# Altium integrated library NSC Amplifier.IntLib: 719 symbols (part 16 of 19)
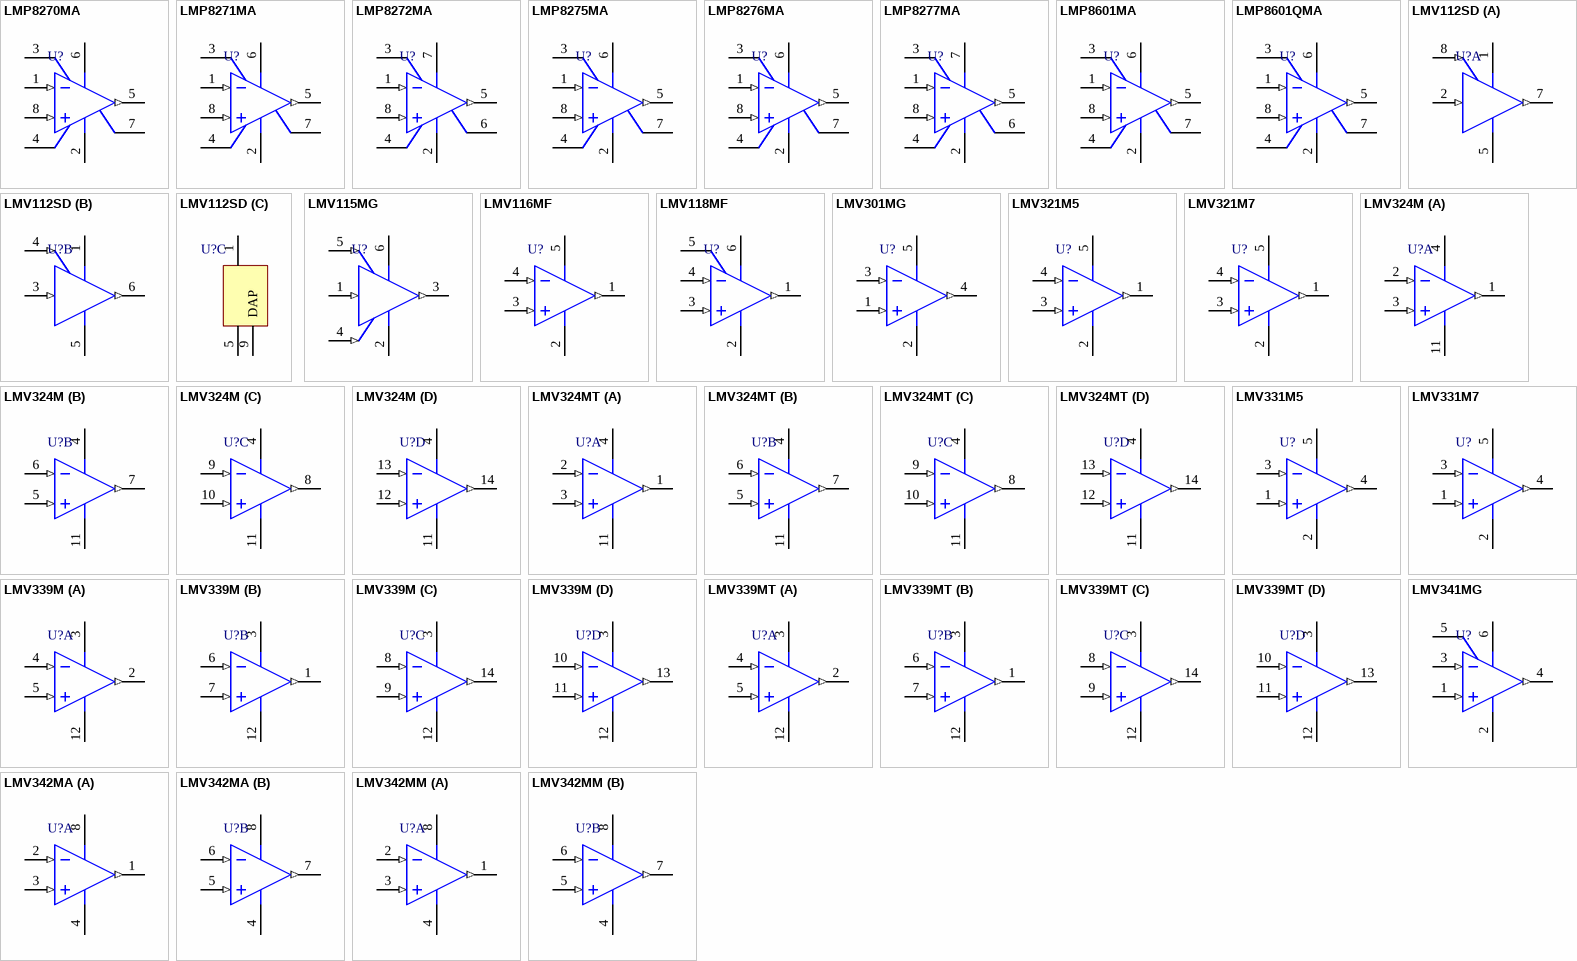
[diagram p53: symbols LMP8270MA to LMV342MM]

## LMV331M5
designator U?
Single General Purpose, Low Voltage, Tiny Pack Comparator; PartNumber: LMV331M5; Manufacturer: National Semiconductor; CompType: Amplifiers; PackageTopMarking: C12*XTT; Published: 4-Dec-2008; LatestRevisionDate: 13-Jan-2009; LatestRevisionNote: Sim Model Added.; DatasheetVersion: May-2007; PackageVersion: revD, Aug-2008; PackageReference: MF05A; Publisher: Altium Limited; PackageDescription: Molded SOT-23, .115 x .063 x .040 in Body, 5 Lead, .0375 in Pitch; RoHS: O; PinCount: 5; DigiKeyPartNumber: LMV331M5XCT-ND; Code_IPC: SOT23-5; ComponentLink1Description: LMV331 Datasheet; ComponentLink1URL: http://www.national.com/ds/LM/LMV331.pdf; ComponentLink2Description: LMV331 Web Page; ComponentLink2URL: http://www.national.com/pf/LM/LMV331.html; ComponentLink3Description: MF05A Package Page; ComponentLink3URL: http://www.national.com/packaging/folders/mf05a.html
footprint MF05A_N (SOT23, 5-Leads, Body 2.9x1.6mm, Pitch 0.95mm, Lead Span 2.8mm, IPC Medium Density)
footprint MF05A_L (SOT23, 5-Leads, Body 2.9x1.6mm, Pitch 0.95mm, Lead Span 2.8mm, IPC High Density)
footprint MF05A_M (SOT23, 5-Leads, Body 2.9x1.6mm, Pitch 0.95mm, Lead Span 2.8mm, IPC Low Density)
simulation model LMV331 (SUBCKT)
pins: 1 IN+ (in), 2 V- (power), 3 IN- (in), 4 OUT (out), 5 V+ (power)

## LMV331M7
designator U?
Single General Purpose, Low Voltage, Tiny Pack Comparator; PartNumber: LMV331M7; Manufacturer: National Semiconductor; CompType: Amplifiers; PackageTopMarking: C13*XTT; Published: 4-Dec-2008; LatestRevisionDate: 13-Jan-2009; LatestRevisionNote: Sim Model Added.; DatasheetVersion: May-2007; PackageVersion: revD, Jun-2007; PackageReference: MAA05A; Publisher: Altium Limited; PackageDescription: Molded SC-70, 2 x 1.25 x .9mm, 5 Lead, 0.65mm Pitch; RoHS: O; PinCount: 5; DigiKeyPartNumber: LMV331M7CT-ND; Code_JEITA: SC-88A; Code_JEDEC: MO-203-AA; Code_IPC: SOT353-5; ComponentLink1Description: LMV331 Datasheet; ComponentLink1URL: http://www.national.com/ds/LM/LMV331.pdf; ComponentLink2Description: LMV331 Web Page; ComponentLink2URL: http://www.national.com/pf/LM/LMV331.html; ComponentLink3Description: MAA05A Package Page; ComponentLink3URL: http://www.national.com/packaging/folders/maa05a.html
footprint MAA05A_N (SOT353, 5-Leads, Body 2x1.3mm, Pitch 0.65mm, Lead Span 2.1mm, IPC Medium Density)
footprint MAA05A_L (SOT353, 5-Leads, Body 2x1.3mm, Pitch 0.65mm, Lead Span 2.1mm, IPC High Density)
footprint MAA05A_M (SOT353, 5-Leads, Body 2x1.3mm, Pitch 0.65mm, Lead Span 2.1mm, IPC Low Density)
simulation model LMV331 (SUBCKT)
pins: 1 IN+ (in), 2 V- (power), 3 IN- (in), 4 OUT (out), 5 V+ (power)

## LMV339M
designator U?
Quad General Purpose, Low Voltage, Tiny Pack Comparator; PartNumber: LMV339M; Manufacturer: National Semiconductor; CompType: Amplifiers; PackageTopMarking: NSUZXYTT*LMV339M; Published: 4-Dec-2008; LatestRevisionDate: 13-Jan-2009; LatestRevisionNote: Sim Model Added.; DatasheetVersion: May-2007; PackageVersion: revJ, Jan-1996; PackageReference: M14A; Publisher: Altium Limited; PackageDescription: Molded Package S.O., .150in Wide, 14 Lead; RoHS: O; PinCount: 14; DigiKeyPartNumber: LMV339M-ND; Code_JEDEC: MS-012AB; Code_IPC: SOIC127P600-14; ComponentLink1Description: LMV339 Datasheet; ComponentLink1URL: http://www.national.com/ds/LM/LMV339.pdf; ComponentLink2Description: LMV339 Web Page; ComponentLink2URL: http://www.national.com/pf/LM/LMV339.html; ComponentLink3Description: M14A Package Page; ComponentLink3URL: http://www.national.com/packaging/folders/m14a.html
footprint M14A_N (SOIC, 14-Leads, Body 8.6x3.9mm, Pitch 1.27mm, IPC Medium Density)
footprint M14A_L (SOIC, 14-Leads, Body 8.6x3.9mm, Pitch 1.27mm, IPC High Density)
footprint M14A_M (SOIC, 14-Leads, Body 8.6x3.9mm, Pitch 1.27mm, IPC Low Density)
simulation model LMV339 (SUBCKT)
pins on every part: 3 V+ (power), 12 V- (power)
part A pins: 2 OUTA (out), 4 INA- (in), 5 INA+ (in)
part B pins: 1 OUTB (out), 6 INB- (in), 7 INB+ (in)
part C pins: 8 INC- (in), 9 INC+ (in), 14 OUTC (out)
part D pins: 10 IND- (in), 11 IND+ (in), 13 OUTD (out)

## LMV339MT
designator U?
Quad General Purpose, Low Voltage, Tiny Pack Comparator; PartNumber: LMV339MT; Manufacturer: National Semiconductor; CompType: Amplifiers; PackageTopMarking: NSUZXYTT*LMV339*MT; Published: 4-Dec-2008; LatestRevisionDate: 13-Jan-2009; LatestRevisionNote: Sim Model Added.; DatasheetVersion: May-2007; PackageVersion: revD, Jun-2003; PackageReference: MTC14; Publisher: Altium Limited; PackageDescription: Molded TSSOP, JEDEC, 5 x 4.4 x 0.9mm Body, 14 Lead, 0.65mm Pitch; RoHS: O; PinCount: 14; DigiKeyPartNumber: LMV339MT-ND; Code_JEDEC: MO-153-AB-1; ComponentLink1Description: LMV339 Datasheet; ComponentLink1URL: http://www.national.com/ds/LM/LMV339.pdf; ComponentLink2Description: LMV339 Web Page; ComponentLink2URL: http://www.national.com/pf/LM/LMV339.html; ComponentLink3Description: MTC14 Package Page; ComponentLink3URL: http://www.national.com/packaging/folders/mtc14.html
footprint MTC14_N (TSOP, 14-Leads, Body 5x4.4mm, Pitch 0.65mm, IPC Medium Density)
footprint MTC14_L (TSOP, 14-Leads, Body 5x4.4mm, Pitch 0.65mm, IPC High Density)
footprint MTC14_M (TSOP, 14-Leads, Body 5x4.4mm, Pitch 0.65mm, IPC Low Density)
simulation model LMV339 (SUBCKT)
pins on every part: 3 V+ (power), 12 V- (power)
part A pins: 2 OUTA (out), 4 INA- (in), 5 INA+ (in)
part B pins: 1 OUTB (out), 6 INB- (in), 7 INB+ (in)
part C pins: 8 INC- (in), 9 INC+ (in), 14 OUTC (out)
part D pins: 10 IND- (in), 11 IND+ (in), 13 OUTD (out)

## LMV341MG
designator U?
Single with Shutdown/Dual/Quad General Purpose, 2.7V, Rail-to-Rail Output, 125°C, Operational Amplifiers; PartNumber: LMV341MG; Manufacturer: National Semiconductor; PackageTopMarking: A78*XTT; Published: 4-Dec-2008; LatestRevisionDate: 13-Jan-2009; LatestRevisionNote: Sim Model Added.; DatasheetVersion: Jan-2008; PackageVersion: revB, Jun-2007; PackageReference: MAA06A; Publisher: Altium Limited; PackageDescription: Molded SC-70, 2 x 1.25 x .9mm, 6 Lead, 0.65mm Pitch; CompType: Amplifiers; RoHS: Y; PinCount: 6; DigiKeyPartNumber: LMV341MGCT-ND; ComponentLink1Description: LMV341 Datasheet; ComponentLink1URL: http://www.national.com/ds/LM/LMV341.pdf; ComponentLink2Description: LMV341 Web Page; ComponentLink2URL: http://www.national.com/pf/LM/LMV341.html; ComponentLink3Description: MAA06A Package Page; ComponentLink3URL: http://www.national.com/packaging/folders/maa06a.html
footprint MAA06A_N (SOT363, 6-Leads, Body 2x1.3mm, Pitch 0.65mm, Lead Span 2.1mm, IPC Medium Density)
footprint MAA06A_L (SOT363, 6-Leads, Body 2x1.3mm, Pitch 0.65mm, Lead Span 2.1mm, IPC High Density)
footprint MAA06A_M (SOT363, 6-Leads, Body 2x1.3mm, Pitch 0.65mm, Lead Span 2.1mm, IPC Low Density)
simulation model LMV342 (SUBCKT)
pins: 1 IN+ (in), 2 GND (power), 3 IN- (in), 4 OUT (out), 5 ~{SHDN}, 6 V+ (power)

## LMV342MA
designator U?
Single with Shutdown/Dual/Quad General Purpose, 2.7V, Rail-to-Rail Output, 125°C, Operational Amplifiers; PartNumber: LMV342MA; Manufacturer: National Semiconductor; PackageTopMarking: NSZXTT*LMV34*2MA; Published: 4-Dec-2008; LatestRevisionDate: 13-Jan-2009; LatestRevisionNote: Sim Model Added.; DatasheetVersion: Jan-2008; PackageVersion: revL, Sep-2006; PackageReference: M08A; Publisher: Altium Limited; PackageDescription: SOIC Narrow, 4.9 x 3.9 x 1.45mm, 8 Lead, 1.27mm Pitch; CompType: Amplifiers; RoHS: Y; PinCount: 8; DigiKeyPartNumber: LMV342MA-ND; Code_JEDEC: MS-012-AA; Code_IPC: SOIC127P600-8; ComponentLink1Description: LMV342 Datasheet; ComponentLink1URL: http://www.national.com/ds/LM/LMV342.pdf; ComponentLink2Description: LMV342 Web Page; ComponentLink2URL: http://www.national.com/pf/LM/LMV342.html; ComponentLink3Description: M08A Package Page; ComponentLink3URL: http://www.national.com/packaging/folders/m08a.html
footprint M08A_N (SOIC, 8-Leads, Body 4.9x3.9mm, Pitch 1.27mm, IPC Medium Density)
footprint M08A_L (SOIC, 8-Leads, Body 4.9x3.9mm, Pitch 1.27mm, IPC High Density)
footprint M08A_M (SOIC, 8-Leads, Body 4.9x3.9mm, Pitch 1.27mm, IPC Low Density)
simulation model LMV342 (SUBCKT)
pins on every part: 4 V- (power), 8 V+ (power)
part A pins: 1 OUTA (out), 2 INA- (in), 3 INA+ (in)
part B pins: 5 INB+ (in), 6 INB- (in), 7 OUTB (out)

## LMV342MM
designator U?
Single with Shutdown/Dual/Quad General Purpose, 2.7V, Rail-to-Rail Output, 125°C, Operational Amplifiers; PartNumber: LMV342MM; Manufacturer: National Semiconductor; PackageTopMarking: ZXTT*A82A; Published: 4-Dec-2008; LatestRevisionDate: 13-Jan-2009; LatestRevisionNote: Sim Model Added.; DatasheetVersion: Jan-2008; PackageVersion: revF, Apr-2008; PackageReference: MUA08A; Publisher: Altium Limited; PackageDescription: MINI SOIC, .118 x .118 x .034in, 8 Lead, .0256in Pitch; CompType: Amplifiers; RoHS: Y; PinCount: 8; DigiKeyPartNumber: LMV342MMCT-ND; Code_JEDEC: MO-187-AA; ComponentLink1Description: LMV342 Datasheet; ComponentLink1URL: http://www.national.com/ds/LM/LMV342.pdf; ComponentLink2Description: LMV342 Web Page; ComponentLink2URL: http://www.national.com/pf/LM/LMV342.html; ComponentLink3Description: MUA08A Package Page; ComponentLink3URL: http://www.national.com/packaging/folders/mua08a.html
footprint MUA08A_N (TSOP, 8-Leads, Body 3x3mm, Pitch 0.65mm, IPC Medium Density)
footprint MUA08A_L (TSOP, 8-Leads, Body 3x3mm, Pitch 0.65mm, IPC High Density)
footprint MUA08A_M (TSOP, 8-Leads, Body 3x3mm, Pitch 0.65mm, IPC Low Density)
simulation model LMV342 (SUBCKT)
pins on every part: 4 V- (power), 8 V+ (power)
part A pins: 1 OUTA (out), 2 INA- (in), 3 INA+ (in)
part B pins: 5 INB+ (in), 6 INB- (in), 7 OUTB (out)

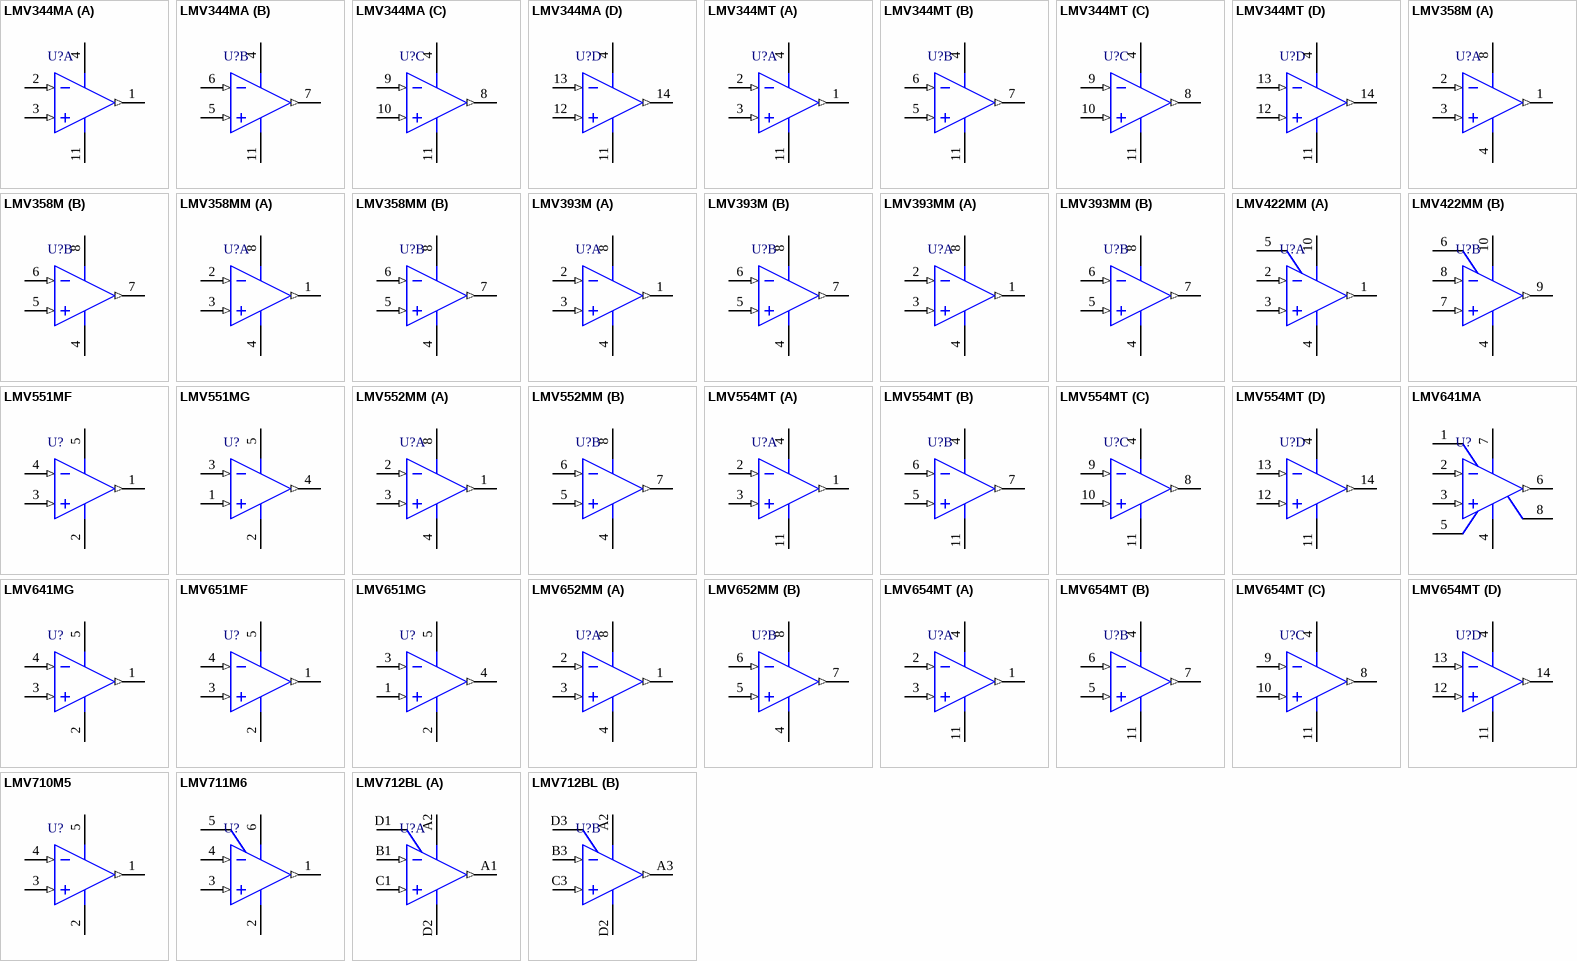
[diagram p33: symbols LMV344MA to LMV712BL]

## LMV344MA
designator U?
Single with Shutdown/Dual/Quad General Purpose, 2.7V,Rail-to-Rail Output, 125°C, Operational Amplifiers; PartNumber: LMV344MA; Manufacturer: National Semiconductor; PackageTopMarking: NSUZXYTT*LMV344MA; Published: 4-Dec-2008; LatestRevisionDate: 13-Jan-2009; LatestRevisionNote: Sim Model Added.; DatasheetVersion: Jan-2008; PackageVersion: revJ, Jan-1996; PackageReference: M14A; Publisher: Altium Limited; PackageDescription: Molded Package S.O., .150in Wide, 14 Lead; CompType: Amplifiers; RoHS: O; PinCount: 14; DigiKeyPartNumber: LMV344MA-ND; Code_JEDEC: MS-012AB; Code_IPC: SOIC127P600-14; ComponentLink1Description: LMV344 Datasheet; ComponentLink1URL: http://www.national.com/ds/LM/LMV344.pdf; ComponentLink2Description: LMV344 Web Page; ComponentLink2URL: http://www.national.com/pf/LM/LMV344.html; ComponentLink3Description: M14A Package Page; ComponentLink3URL: http://www.national.com/packaging/folders/m14a.html
footprint M14A_N (SOIC, 14-Leads, Body 8.6x3.9mm, Pitch 1.27mm, IPC Medium Density)
footprint M14A_L (SOIC, 14-Leads, Body 8.6x3.9mm, Pitch 1.27mm, IPC High Density)
footprint M14A_M (SOIC, 14-Leads, Body 8.6x3.9mm, Pitch 1.27mm, IPC Low Density)
simulation model LMV342 (SUBCKT)
pins on every part: 4 V+ (power), 11 V- (power)
part A pins: 1 OUTA (out), 2 INA- (in), 3 INA+ (in)
part B pins: 5 INB+ (in), 6 INB- (in), 7 OUTB (out)
part C pins: 8 OUTC (out), 9 INC- (in), 10 INC+ (in)
part D pins: 12 IND+ (in), 13 IND- (in), 14 OUTD (out)

## LMV344MT
designator U?
Single with Shutdown/Dual/Quad General Purpose, 2.7V,Rail-to-Rail Output, 125°C, Operational Amplifiers; PartNumber: LMV344MT; Manufacturer: National Semiconductor; PackageTopMarking: NSZXYTT*LMV34*4MT; Published: 4-Dec-2008; LatestRevisionDate: 13-Jan-2009; LatestRevisionNote: Sim Model Added.; DatasheetVersion: Jan-2008; PackageVersion: revD, Jun-2003; PackageReference: MTC14; Publisher: Altium Limited; PackageDescription: Molded TSSOP, JEDEC, 5 x 4.4 x 0.9mm Body, 14 Lead, 0.65mm Pitch; CompType: Amplifiers; RoHS: Y; PinCount: 14; DigiKeyPartNumber: LMV344MT-ND; Code_JEDEC: MO-153-AB-1; ComponentLink1Description: LMV344 Datasheet; ComponentLink1URL: http://www.national.com/ds/LM/LMV344.pdf; ComponentLink2Description: LMV344 Web Page; ComponentLink2URL: http://www.national.com/pf/LM/LMV344.html; ComponentLink3Description: MTC14 Package Page; ComponentLink3URL: http://www.national.com/packaging/folders/mtc14.html
footprint MTC14_N (TSOP, 14-Leads, Body 5x4.4mm, Pitch 0.65mm, IPC Medium Density)
footprint MTC14_L (TSOP, 14-Leads, Body 5x4.4mm, Pitch 0.65mm, IPC High Density)
footprint MTC14_M (TSOP, 14-Leads, Body 5x4.4mm, Pitch 0.65mm, IPC Low Density)
simulation model LMV342 (SUBCKT)
pins on every part: 4 V+ (power), 11 V- (power)
part A pins: 1 OUTA (out), 2 INA- (in), 3 INA+ (in)
part B pins: 5 INB+ (in), 6 INB- (in), 7 OUTB (out)
part C pins: 8 OUTC (out), 9 INC- (in), 10 INC+ (in)
part D pins: 12 IND+ (in), 13 IND- (in), 14 OUTD (out)

## LMV358M
designator U?
General Purpose, Low Voltage, Rail-to-Rail Output Operational Amplifiers; PartNumber: LMV358M; Manufacturer: National Semiconductor; PackageTopMarking: NSZXTT*LMV*358M; Published: 4-Dec-2008; LatestRevisionDate: 13-Jan-2009; LatestRevisionNote: Sim Model Added.; DatasheetVersion: Oct-2007; PackageVersion: revL, Sep-2006; PackageReference: M08A; Publisher: Altium Limited; PackageDescription: SOIC Narrow, 4.9 x 3.9 x 1.45mm, 8 Lead, 1.27mm Pitch; CompType: Amplifiers; RoHS: O; PinCount: 8; DigiKeyPartNumber: LMV358MMCT-ND; Code_JEDEC: MS-012-AA; Code_IPC: SOIC127P600-8; ComponentLink1Description: LMV358 Datasheet; ComponentLink1URL: http://www.national.com/ds/LM/LMV358.pdf; ComponentLink2Description: LMV358 Web Page; ComponentLink2URL: http://www.national.com/pf/LM/LMV358.html; ComponentLink3Description: M08A Package Page; ComponentLink3URL: http://www.national.com/packaging/folders/m08a.html
footprint M08A_N (SOIC, 8-Leads, Body 4.9x3.9mm, Pitch 1.27mm, IPC Medium Density)
footprint M08A_L (SOIC, 8-Leads, Body 4.9x3.9mm, Pitch 1.27mm, IPC High Density)
footprint M08A_M (SOIC, 8-Leads, Body 4.9x3.9mm, Pitch 1.27mm, IPC Low Density)
simulation model LMV358 (SUBCKT)
pins on every part: 4 V- (power), 8 V+ (power)
part A pins: 1 OUTA (out), 2 INA- (in), 3 INA+ (in)
part B pins: 5 INB+ (in), 6 INB- (in), 7 OUTB (out)

## LMV358MM
designator U?
General Purpose, Low Voltage, Rail-to-Rail Output Operational Amplifiers; PartNumber: LMV358MM; Manufacturer: National Semiconductor; PackageTopMarking: ZXTT*V358; Published: 4-Dec-2008; LatestRevisionDate: 13-Jan-2009; LatestRevisionNote: Sim Model Added.; DatasheetVersion: Oct-2007; PackageVersion: revF, Apr-2008; PackageReference: MUA08A; Publisher: Altium Limited; PackageDescription: MINI SOIC, .118 x .118 x .034in, 8 Lead, .0256in Pitch; CompType: Amplifiers; RoHS: O; PinCount: 8; DigiKeyPartNumber: LMV358MMCT-ND; Code_JEDEC: MO-187-AA; ComponentLink1Description: LMV358 Datasheet; ComponentLink1URL: http://www.national.com/ds/LM/LMV358.pdf; ComponentLink2Description: LMV358 Web Page; ComponentLink2URL: http://www.national.com/pf/LM/LMV358.html; ComponentLink3Description: MUA08A Package Page; ComponentLink3URL: http://www.national.com/packaging/folders/mua08a.html
footprint MUA08A_N (TSOP, 8-Leads, Body 3x3mm, Pitch 0.65mm, IPC Medium Density)
footprint MUA08A_L (TSOP, 8-Leads, Body 3x3mm, Pitch 0.65mm, IPC High Density)
footprint MUA08A_M (TSOP, 8-Leads, Body 3x3mm, Pitch 0.65mm, IPC Low Density)
simulation model LMV358 (SUBCKT)
pins on every part: 4 V- (power), 8 V+ (power)
part A pins: 1 OUTA (out), 2 INA- (in), 3 INA+ (in)
part B pins: 5 INB+ (in), 6 INB- (in), 7 OUTB (out)

## LMV393M
designator U?
Dual General Purpose, Low Voltage, Tiny Pack Comparator; PartNumber: LMV393M; Manufacturer: National Semiconductor; CompType: Amplifiers; PackageTopMarking: NSZXTT*LMV*393M; Published: 4-Dec-2008; LatestRevisionDate: 13-Jan-2009; LatestRevisionNote: Sim Model Added.; DatasheetVersion: May-2007; PackageVersion: revL, Sep-2006; PackageReference: M08A; Publisher: Altium Limited; PackageDescription: SOIC Narrow, 4.9 x 3.9 x 1.45mm, 8 Lead, 1.27mm Pitch; RoHS: O; PinCount: 8; DigiKeyPartNumber: LMV393MMCT-ND; Code_JEDEC: MS-012-AA; Code_IPC: SOIC127P600-8; ComponentLink1Description: LMV393 Datasheet; ComponentLink1URL: http://www.national.com/ds/LM/LMV393.pdf; ComponentLink2Description: LMV393 Web Page; ComponentLink2URL: http://www.national.com/pf/LM/LMV393.html; ComponentLink3Description: M08A Package Page; ComponentLink3URL: http://www.national.com/packaging/folders/m08a.html
footprint M08A_N (SOIC, 8-Leads, Body 4.9x3.9mm, Pitch 1.27mm, IPC Medium Density)
footprint M08A_L (SOIC, 8-Leads, Body 4.9x3.9mm, Pitch 1.27mm, IPC High Density)
footprint M08A_M (SOIC, 8-Leads, Body 4.9x3.9mm, Pitch 1.27mm, IPC Low Density)
simulation model LMV393 (SUBCKT)
pins on every part: 4 V- (power), 8 V+ (power)
part A pins: 1 OUTA (out), 2 INA- (in), 3 INA+ (in)
part B pins: 5 INB+ (in), 6 INB- (in), 7 OUTB (out)

## LMV393MM
designator U?
Dual General Purpose, Low Voltage, Tiny Pack Comparator; PartNumber: LMV393MM; Manufacturer: National Semiconductor; CompType: Amplifiers; PackageTopMarking: ZXTT*V393; Published: 4-Dec-2008; LatestRevisionDate: 13-Jan-2009; LatestRevisionNote: Sim Model Added.; DatasheetVersion: May-2007; PackageVersion: revF, Apr-2008; PackageReference: MUA08A; Publisher: Altium Limited; PackageDescription: MINI SOIC, .118 x .118 x .034in, 8 Lead, .0256in Pitch; RoHS: O; PinCount: 8; DigiKeyPartNumber: LMV393MMCT-ND; Code_JEDEC: MO-187-AA; ComponentLink1Description: LMV393 Datasheet; ComponentLink1URL: http://www.national.com/ds/LM/LMV393.pdf; ComponentLink2Description: LMV393 Web Page; ComponentLink2URL: http://www.national.com/pf/LM/LMV393.html; ComponentLink3Description: MUA08A Package Page; ComponentLink3URL: http://www.national.com/packaging/folders/mua08a.html
footprint MUA08A_N (TSOP, 8-Leads, Body 3x3mm, Pitch 0.65mm, IPC Medium Density)
footprint MUA08A_L (TSOP, 8-Leads, Body 3x3mm, Pitch 0.65mm, IPC High Density)
footprint MUA08A_M (TSOP, 8-Leads, Body 3x3mm, Pitch 0.65mm, IPC Low Density)
simulation model LMV393 (SUBCKT)
pins on every part: 4 V- (power), 8 V+ (power)
part A pins: 1 OUTA (out), 2 INA- (in), 3 INA+ (in)
part B pins: 5 INB+ (in), 6 INB- (in), 7 OUTB (out)

## LMV422MM
designator U?
Dual Rail-to-Rail Output Operational Amplifier with Power Select; PartNumber: LMV422MM; Manufacturer: National Semiconductor; CompType: Amplifiers; PackageTopMarking: ZXTT*AJ1A; Published: 4-Dec-2008; DatasheetVersion: Feb-2005; PackageVersion: revB, Jul-2003; PackageReference: MUB10A; Publisher: Altium Limited; PackageDescription: Mini-SO, Molded, .118 x .118 x .034in Body, 10 Lead, .0197in Pitch; RoHS: Y; PinCount: 10; DigiKeyPartNumber: LMV422MMCT-ND; Code_JEDEC: MO-187-BA; ComponentLink1Description: LMV422 Datasheet; ComponentLink1URL: http://www.national.com/ds/LM/LMV422.pdf; ComponentLink2Description: LMV422 Web Page; ComponentLink2URL: http://www.national.com/pf/LM/LMV422.html; ComponentLink3Description: MUB10A Package Page; ComponentLink3URL: http://www.national.com/packaging/folders/mub10a.html
footprint MUB10A_N (TSSOP, 10-Leads, Body 3x3mm, Pitch 0.5mm, IPC Medium Density)
footprint MUB10A_L (TSSOP, 10-Leads, Body 3x3mm, Pitch 0.5mm, IPC High Density)
footprint MUB10A_M (TSSOP, 10-Leads, Body 3x3mm, Pitch 0.5mm, IPC Low Density)
pins on every part: 4 V- (power), 10 V+ (power)
part A pins: 1 OUTA (out), 2 INA- (in), 3 INA+ (in), 5 PS A
part B pins: 6 PS B, 7 INB+ (in), 8 INB- (in), 9 OUTB (out)

## LMV551MF
designator U?
3 MHz, Micropower RRO Amplifier; PartNumber: LMV551MF; Manufacturer: National Semiconductor; CompType: Amplifiers; PackageTopMarking: AF3A*XTT; Published: 4-Dec-2008; LatestRevisionDate: 13-Jan-2009; LatestRevisionNote: Sim Model Added.; DatasheetVersion: Aug-2008; PackageVersion: revD, Aug-2008; PackageReference: MF05A; Publisher: Altium Limited; PackageDescription: Molded SOT-23, .115 x .063 x .040 in Body, 5 Lead, .0375 in Pitch; RoHS: Y; PinCount: 5; DigiKeyPartNumber: LMV551MFX-ND; Code_IPC: SOT23-5; ComponentLink1Description: LMV551 Datasheet; ComponentLink1URL: http://www.national.com/ds/LM/LMV551.pdf; ComponentLink2Description: LMV551 Web Page; ComponentLink2URL: http://www.national.com/pf/LM/LMV551.html; ComponentLink3Description: MF05A Package Page; ComponentLink3URL: http://www.national.com/packaging/folders/mf05a.html
footprint MF05A_N (SOT23, 5-Leads, Body 2.9x1.6mm, Pitch 0.95mm, Lead Span 2.8mm, IPC Medium Density)
footprint MF05A_L (SOT23, 5-Leads, Body 2.9x1.6mm, Pitch 0.95mm, Lead Span 2.8mm, IPC High Density)
footprint MF05A_M (SOT23, 5-Leads, Body 2.9x1.6mm, Pitch 0.95mm, Lead Span 2.8mm, IPC Low Density)
simulation model LMV551 (SUBCKT)
pins: 1 OUT (out), 2 V- (power), 3 IN+ (in), 4 IN- (in), 5 V+ (power)

## LMV551MG
designator U?
3 MHz, Micropower RRO Amplifier; PartNumber: LMV551MG; Manufacturer: National Semiconductor; CompType: Amplifiers; PackageTopMarking: A94*XTT; Published: 4-Dec-2008; LatestRevisionDate: 13-Jan-2009; LatestRevisionNote: Sim Model Added.; DatasheetVersion: Aug-2008; PackageVersion: revD, Jun-2007; PackageReference: MAA05A; Publisher: Altium Limited; PackageDescription: Molded SC-70, 2 x 1.25 x .9mm, 5 Lead, 0.65mm Pitch; RoHS: Y; PinCount: 5; DigiKeyPartNumber: LMV551MGCT-ND; Code_JEITA: SC-88A; Code_JEDEC: MO-203-AA; Code_IPC: SOT353-5; ComponentLink1Description: LMV551 Datasheet; ComponentLink1URL: http://www.national.com/ds/LM/LMV551.pdf; ComponentLink2Description: LMV551 Web Page; ComponentLink2URL: http://www.national.com/pf/LM/LMV551.html; ComponentLink3Description: MAA05A Package Page; ComponentLink3URL: http://www.national.com/packaging/folders/maa05a.html
footprint MAA05A_N (SOT353, 5-Leads, Body 2x1.3mm, Pitch 0.65mm, Lead Span 2.1mm, IPC Medium Density)
footprint MAA05A_L (SOT353, 5-Leads, Body 2x1.3mm, Pitch 0.65mm, Lead Span 2.1mm, IPC High Density)
footprint MAA05A_M (SOT353, 5-Leads, Body 2x1.3mm, Pitch 0.65mm, Lead Span 2.1mm, IPC Low Density)
simulation model LMV551 (SUBCKT)
pins: 1 IN+ (in), 2 V- (power), 3 IN- (in), 4 OUT (out), 5 V+ (power)

## LMV552MM
designator U?
3 MHz, Micropower RRO Amplifier; PartNumber: LMV552MM; Manufacturer: National Semiconductor; CompType: Amplifiers; PackageTopMarking: ZXTT*AH3A; Published: 4-Dec-2008; LatestRevisionDate: 13-Jan-2009; LatestRevisionNote: Sim Model Added.; DatasheetVersion: Aug-2008; PackageVersion: revF, Apr-2008; PackageReference: MUA08A; Publisher: Altium Limited; PackageDescription: MINI SOIC, .118 x .118 x .034in, 8 Lead, .0256in Pitch; RoHS: Y; PinCount: 8; DigiKeyPartNumber: LMV552MMCT-ND; Code_JEDEC: MO-187-AA; ComponentLink1Description: LMV552 Datasheet; ComponentLink1URL: http://www.national.com/ds/LM/LMV552.pdf; ComponentLink2Description: LMV552 Web Page; ComponentLink2URL: http://www.national.com/pf/LM/LMV552.html; ComponentLink3Description: MUA08A Package Page; ComponentLink3URL: http://www.national.com/packaging/folders/mua08a.html
footprint MUA08A_N (TSOP, 8-Leads, Body 3x3mm, Pitch 0.65mm, IPC Medium Density)
footprint MUA08A_L (TSOP, 8-Leads, Body 3x3mm, Pitch 0.65mm, IPC High Density)
footprint MUA08A_M (TSOP, 8-Leads, Body 3x3mm, Pitch 0.65mm, IPC Low Density)
simulation model LMV552 (SUBCKT)
pins on every part: 4 V- (power), 8 V+ (power)
part A pins: 1 OUTA (out), 2 INA- (in), 3 INA+ (in)
part B pins: 5 INB+ (in), 6 INB- (in), 7 OUTB (out)

## LMV554MT
designator U?
3 MHz, Micropower RRO Amplifier; PartNumber: LMV554MT; Manufacturer: National Semiconductor; CompType: Amplifiers; PackageTopMarking: NSUZXYTT*LMV55*4MT; Published: 4-Dec-2008; LatestRevisionDate: 13-Jan-2009; LatestRevisionNote: Sim Model Added.; DatasheetVersion: Aug-2008; PackageVersion: revD, Jun-2003; PackageReference: MTC14; Publisher: Altium Limited; PackageDescription: Molded TSSOP, JEDEC, 5 x 4.4 x 0.9mm Body, 14 Lead, 0.65mm Pitch; RoHS: Y; PinCount: 14; DigiKeyPartNumber: LMV554MT-ND; Code_JEDEC: MO-153-AB-1; ComponentLink1Description: LMV554 Datasheet; ComponentLink1URL: http://www.national.com/ds/LM/LMV554.pdf; ComponentLink2Description: LMV554 Web Page; ComponentLink2URL: http://www.national.com/pf/LM/LMV554.html; ComponentLink3Description: MTC14 Package Page; ComponentLink3URL: http://www.national.com/packaging/folders/mtc14.html
footprint MTC14_N (TSOP, 14-Leads, Body 5x4.4mm, Pitch 0.65mm, IPC Medium Density)
footprint MTC14_L (TSOP, 14-Leads, Body 5x4.4mm, Pitch 0.65mm, IPC High Density)
footprint MTC14_M (TSOP, 14-Leads, Body 5x4.4mm, Pitch 0.65mm, IPC Low Density)
simulation model LMV554 (SUBCKT)
pins on every part: 4 V+ (power), 11 V- (power)
part A pins: 1 OUTA (out), 2 INA- (in), 3 INA+ (in)
part B pins: 5 INB+ (in), 6 INB- (in), 7 OUTB (out)
part C pins: 8 OUTC (out), 9 INC- (in), 10 INC+ (in)
part D pins: 12 IND+ (in), 13 IND- (in), 14 OUTD (out)

## LMV641MA
designator U?
10 MHz, 12V, Low Power Amplifier; PartNumber: LMV641MA; Manufacturer: National Semiconductor; CompType: Amplifiers; PackageTopMarking: NSZXTT*LMV64*1MA; Published: 4-Dec-2008; LatestRevisionDate: 13-Jan-2009; LatestRevisionNote: Sim Model Added.; DatasheetVersion: Sep-2007; PackageVersion: revL, Sep-2006; PackageReference: M08A; Publisher: Altium Limited; PackageDescription: SOIC Narrow, 4.9 x 3.9 x 1.45mm, 8 Lead, 1.27mm Pitch; RoHS: Y; PinCount: 8; DigiKeyPartNumber: LMV641MA-ND; Code_JEDEC: MS-012-AA; Code_IPC: SOIC127P600-8; ComponentLink1Description: LMV641 Datasheet; ComponentLink1URL: http://www.national.com/ds/LM/LMV641.pdf; ComponentLink2Description: LMV641 Web Page; ComponentLink2URL: http://www.national.com/pf/LM/LMV641.html; ComponentLink3Description: M08A Package Page; ComponentLink3URL: http://www.national.com/packaging/folders/m08a.html
footprint M08A_N (SOIC, 8-Leads, Body 4.9x3.9mm, Pitch 1.27mm, IPC Medium Density)
footprint M08A_L (SOIC, 8-Leads, Body 4.9x3.9mm, Pitch 1.27mm, IPC High Density)
footprint M08A_M (SOIC, 8-Leads, Body 4.9x3.9mm, Pitch 1.27mm, IPC Low Density)
simulation model LMV641 (SUBCKT)
pins: 1 NC, 2 IN- (in), 3 IN+ (in), 4 V- (power), 5 NC, 6 OUT (out), 7 V+ (power), 8 NC

## LMV641MG
designator U?
10 MHz, 12V, Low Power Amplifier; PartNumber: LMV641MG; Manufacturer: National Semiconductor; CompType: Amplifiers; PackageTopMarking: A99*XTT; Published: 4-Dec-2008; LatestRevisionDate: 13-Jan-2009; LatestRevisionNote: Sim Model Added.; DatasheetVersion: Sep-2007; PackageVersion: revD, Jun-2007; PackageReference: MAA05A; Publisher: Altium Limited; PackageDescription: Molded SC-70, 2 x 1.25 x .9mm, 5 Lead, 0.65mm Pitch; RoHS: Y; PinCount: 5; DigiKeyPartNumber: LMV641MGECT-ND; Code_JEITA: SC-88A; Code_JEDEC: MO-203-AA; Code_IPC: SOT353-5; ComponentLink1Description: LMV641 Datasheet; ComponentLink1URL: http://www.national.com/ds/LM/LMV641.pdf; ComponentLink2Description: LMV641 Web Page; ComponentLink2URL: http://www.national.com/pf/LM/LMV641.html; ComponentLink3Description: MAA05A Package Page; ComponentLink3URL: http://www.national.com/packaging/folders/maa05a.html
footprint MAA05A_N (SOT353, 5-Leads, Body 2x1.3mm, Pitch 0.65mm, Lead Span 2.1mm, IPC Medium Density)
footprint MAA05A_L (SOT353, 5-Leads, Body 2x1.3mm, Pitch 0.65mm, Lead Span 2.1mm, IPC High Density)
footprint MAA05A_M (SOT353, 5-Leads, Body 2x1.3mm, Pitch 0.65mm, Lead Span 2.1mm, IPC Low Density)
simulation model LMV641 (SUBCKT)
pins: 1 OUT (out), 2 V- (power), 3 IN+ (in), 4 IN- (in), 5 V+ (power)

## LMV651MF
designator U?
12 MHz, Low Voltage, Low Power Amplifier; PartNumber: LMV651MF; Manufacturer: National Semiconductor; CompType: Amplifiers; PackageTopMarking: AY2A*XTT; Published: 4-Dec-2008; LatestRevisionDate: 13-Jan-2009; LatestRevisionNote: Sim Model Added.; DatasheetVersion: Aug-2008; PackageVersion: revD, Aug-2008; PackageReference: MF05A; Publisher: Altium Limited; PackageDescription: Molded SOT-23, .115 x .063 x .040 in Body, 5 Lead, .0375 in Pitch; RoHS: Y; PinCount: 5; DigiKeyPartNumber: LMV651MFX-ND; Code_IPC: SOT23-5; ComponentLink1Description: LMV651 Datasheet; ComponentLink1URL: http://www.national.com/ds/LM/LMV651.pdf; ComponentLink2Description: LMV651 Web Page; ComponentLink2URL: http://www.national.com/pf/LM/LMV651.html; ComponentLink3Description: MF05A Package Page; ComponentLink3URL: http://www.national.com/packaging/folders/mf05a.html
footprint MF05A_N (SOT23, 5-Leads, Body 2.9x1.6mm, Pitch 0.95mm, Lead Span 2.8mm, IPC Medium Density)
footprint MF05A_L (SOT23, 5-Leads, Body 2.9x1.6mm, Pitch 0.95mm, Lead Span 2.8mm, IPC High Density)
footprint MF05A_M (SOT23, 5-Leads, Body 2.9x1.6mm, Pitch 0.95mm, Lead Span 2.8mm, IPC Low Density)
simulation model LMV651 (SUBCKT)
pins: 1 OUT (out), 2 V- (power), 3 IN+ (in), 4 IN- (in), 5 V+ (power)

## LMV651MG
designator U?
12 MHz, Low Voltage, Low Power Amplifier; PartNumber: LMV651MG; Manufacturer: National Semiconductor; CompType: Amplifiers; PackageTopMarking: A93*XTT; Published: 4-Dec-2008; LatestRevisionDate: 13-Jan-2009; LatestRevisionNote: Sim Model Added.; DatasheetVersion: Aug-2008; PackageVersion: revD, Jun-2007; PackageReference: MAA05A; Publisher: Altium Limited; PackageDescription: Molded SC-70, 2 x 1.25 x .9mm, 5 Lead, 0.65mm Pitch; RoHS: O; PinCount: 5; DigiKeyPartNumber: LMV651MGCT-ND; Code_JEITA: SC-88A; Code_JEDEC: MO-203-AA; Code_IPC: SOT353-5; ComponentLink1Description: LMV651 Datasheet; ComponentLink1URL: http://www.national.com/ds/LM/LMV651.pdf; ComponentLink2Description: LMV651 Web Page; ComponentLink2URL: http://www.national.com/pf/LM/LMV651.html; ComponentLink3Description: MAA05A Package Page; ComponentLink3URL: http://www.national.com/packaging/folders/maa05a.html
footprint MAA05A_N (SOT353, 5-Leads, Body 2x1.3mm, Pitch 0.65mm, Lead Span 2.1mm, IPC Medium Density)
footprint MAA05A_L (SOT353, 5-Leads, Body 2x1.3mm, Pitch 0.65mm, Lead Span 2.1mm, IPC High Density)
footprint MAA05A_M (SOT353, 5-Leads, Body 2x1.3mm, Pitch 0.65mm, Lead Span 2.1mm, IPC Low Density)
simulation model LMV651 (SUBCKT)
pins: 1 IN+ (in), 2 V- (power), 3 IN- (in), 4 OUT (out), 5 V+ (power)

## LMV652MM
designator U?
12 MHz, Low Voltage, Low Power Amplifier; PartNumber: LMV652MM; Manufacturer: National Semiconductor; CompType: Amplifiers; PackageTopMarking: ZXTT*AB3A; Published: 4-Dec-2008; LatestRevisionDate: 13-Jan-2009; LatestRevisionNote: Sim Model Added.; DatasheetVersion: Aug-2008; PackageVersion: revF, Apr-2008; PackageReference: MUA08A; Publisher: Altium Limited; PackageDescription: MINI SOIC, .118 x .118 x .034in, 8 Lead, .0256in Pitch; RoHS: Y; PinCount: 8; DigiKeyPartNumber: LMV652MMCT-ND; Code_JEDEC: MO-187-AA; ComponentLink1Description: LMV652 Datasheet; ComponentLink1URL: http://www.national.com/ds/LM/LMV652.pdf; ComponentLink2Description: LMV652 Web Page; ComponentLink2URL: http://www.national.com/pf/LM/LMV652.html; ComponentLink3Description: MUA08A Package Page; ComponentLink3URL: http://www.national.com/packaging/folders/mua08a.html
footprint MUA08A_N (TSOP, 8-Leads, Body 3x3mm, Pitch 0.65mm, IPC Medium Density)
footprint MUA08A_L (TSOP, 8-Leads, Body 3x3mm, Pitch 0.65mm, IPC High Density)
footprint MUA08A_M (TSOP, 8-Leads, Body 3x3mm, Pitch 0.65mm, IPC Low Density)
simulation model LMV652 (SUBCKT)
pins on every part: 4 V- (power), 8 V+ (power)
part A pins: 1 OUTA (out), 2 INA- (in), 3 INA+ (in)
part B pins: 5 INB+ (in), 6 INB- (in), 7 OUTB (out)

## LMV654MT
designator U?
12 MHz, Low Voltage, Low Power Amplifier; PartNumber: LMV654MT; Manufacturer: National Semiconductor; CompType: Amplifiers; PackageTopMarking: NSUZXYTT*LMV65*4MT; Published: 4-Dec-2008; LatestRevisionDate: 13-Jan-2009; LatestRevisionNote: Sim Model Added.; DatasheetVersion: Aug-2008; PackageVersion: revD, Jun-2003; PackageReference: MTC14; Publisher: Altium Limited; PackageDescription: Molded TSSOP, JEDEC, 5 x 4.4 x 0.9mm Body, 14 Lead, 0.65mm Pitch; RoHS: O; PinCount: 14; DigiKeyPartNumber: LMV654MT-ND; Code_JEDEC: MO-153-AB-1; ComponentLink1Description: LMV654 Datasheet; ComponentLink1URL: http://www.national.com/ds/LM/LMV654.pdf; ComponentLink2Description: LMV654 Web Page; ComponentLink2URL: http://www.national.com/pf/LM/LMV654.html; ComponentLink3Description: MTC14 Package Page; ComponentLink3URL: http://www.national.com/packaging/folders/mtc14.html
footprint MTC14_N (TSOP, 14-Leads, Body 5x4.4mm, Pitch 0.65mm, IPC Medium Density)
footprint MTC14_L (TSOP, 14-Leads, Body 5x4.4mm, Pitch 0.65mm, IPC High Density)
footprint MTC14_M (TSOP, 14-Leads, Body 5x4.4mm, Pitch 0.65mm, IPC Low Density)
simulation model LMV654 (SUBCKT)
pins on every part: 4 V+ (power), 11 V- (power)
part A pins: 1 OUTA (out), 2 INA- (in), 3 INA+ (in)
part B pins: 5 INB+ (in), 6 INB- (in), 7 OUTB (out)
part C pins: 8 OUTC (out), 9 INC- (in), 10 INC+ (in)
part D pins: 12 IND+ (in), 13 IND- (in), 14 OUTD (out)

## LMV710M5
designator U?
Low Power, RRIO Operational Amplifiers with High Output Current Drive and Shutdown Option; PartNumber: LMV710M5; Manufacturer: National Semiconductor; PackageTopMarking: A48A*XTT; Published: 4-Dec-2008; LatestRevisionDate: 13-Jan-2009; LatestRevisionNote: Sim Model Added.; DatasheetVersion: Jun-2005; PackageVersion: revD, Aug-2008; PackageReference: MF05A; Publisher: Altium Limited; PackageDescription: Molded SOT-23, .115 x .063 x .040 in Body, 5 Lead, .0375 in Pitch; CompType: Amplifiers; RoHS: O; PinCount: 5; DigiKeyPartNumber: LMV710M5CT-ND; Code_IPC: SOT23-5; ComponentLink1Description: LMV710 Datasheet; ComponentLink1URL: http://www.national.com/ds/LM/LMV710.pdf; ComponentLink2Description: LMV710 Web Page; ComponentLink2URL: http://www.national.com/pf/LM/LMV710.html; ComponentLink3Description: MF05A Package Page; ComponentLink3URL: http://www.national.com/packaging/folders/mf05a.html
footprint MF05A_N (SOT23, 5-Leads, Body 2.9x1.6mm, Pitch 0.95mm, Lead Span 2.8mm, IPC Medium Density)
footprint MF05A_L (SOT23, 5-Leads, Body 2.9x1.6mm, Pitch 0.95mm, Lead Span 2.8mm, IPC High Density)
footprint MF05A_M (SOT23, 5-Leads, Body 2.9x1.6mm, Pitch 0.95mm, Lead Span 2.8mm, IPC Low Density)
simulation model LMV710 (SUBCKT)
pins: 1 OUT (out), 2 V- (power), 3 IN+ (in), 4 IN- (in), 5 V+ (power)

## LMV711M6
designator U?
Low Power, RRIO Operational Amplifiers with High Output Current Drive and Shutdown Option; PartNumber: LMV711M6; Manufacturer: National Semiconductor; PackageTopMarking: A47A*XTT; Published: 4-Dec-2008; LatestRevisionDate: 13-Jan-2009; LatestRevisionNote: Sim Model Added.; DatasheetVersion: Jun-2005; PackageVersion: revC, Sep-2005; PackageReference: MF06A; Publisher: Altium Limited; PackageDescription: Molded SOT-23, .115 x .063 x .040in Body, 6 Lead, .0375in in Pitch; CompType: Amplifiers; RoHS: O; PinCount: 6; DigiKeyPartNumber: LMV711M6CT-ND; Code_JEDEC: MO-178-AB; Code_IPC: SOT26A-6; ComponentLink1Description: LMV711 Datasheet; ComponentLink1URL: http://www.national.com/ds/LM/LMV711.pdf; ComponentLink2Description: LMV711 Web Page; ComponentLink2URL: http://www.national.com/pf/LM/LMV711.html; ComponentLink3Description: MF06A Package Page; ComponentLink3URL: http://www.national.com/packaging/folders/mf06a.html
footprint MF06A_N (SOT23, 6-Leads, Body 2.9x1.6mm, Pitch 0.95mm, Lead Span 2.8mm, IPC Medium Density)
footprint MF06A_L (SOT23, 6-Leads, Body 2.9x1.6mm, Pitch 0.95mm, Lead Span 2.8mm, IPC High Density)
footprint MF06A_M (SOT23, 6-Leads, Body 2.9x1.6mm, Pitch 0.95mm, Lead Span 2.8mm, IPC Low Density)
simulation model LMV711 (SUBCKT)
pins: 1 OUT (out), 2 V- (power), 3 IN+ (in), 4 IN- (in), 5 SHDN, 6 V+ (power)

## LMV712BL
designator U?
Low Power, Low Noise, High Output, RRIO Dual Operational Amplifier with Independent Shutdown; PartNumber: LMV712BL; Manufacturer: National Semiconductor; CompType: Amplifiers; PackageTopMarking: XYTT*I A76A; Published: 4-Dec-2008; LatestRevisionDate: 13-Jan-2009; LatestRevisionNote: Sim Model Added.; DatasheetVersion: Apr-2008; PackageVersion: revB, Feb-2002; PackageReference: BLP10AAB; Publisher: Altium Limited; PackageDescription: Micro SMD, 10 Bump (Large), Peripheral, 0.5mm Pitch; RoHS: N; PinCount: 10; DigiKeyPartNumber: LMV712BLCT-ND; Code_JEDEC: MO-211-BD; ComponentLink1Description: LMV712 Datasheet; ComponentLink1URL: http://www.national.com/ds/LM/LMV712.pdf; ComponentLink2Description: LMV712 Web Page; ComponentLink2URL: http://www.national.com/pf/LM/LMV712.html; ComponentLink3Description: BLP10AAB Package Page; ComponentLink3URL: http://www.national.com/packaging/folders/blp10aab.html
footprint BLP10AAB (Micro SMD, 10-Leads, Body 2.0x1.52mm, Pitch 0.5mm, NSC Recommended)
simulation model LMV711 (SUBCKT)
pins on every part: A2 V+ (power), D2 V- (power)
part A pins: A1 OUTA (out), B1 INA- (in), C1 INA+ (in), D1 SDA
part B pins: A3 OUTB (out), B3 INB- (in), C3 INB+ (in), D3 SDB

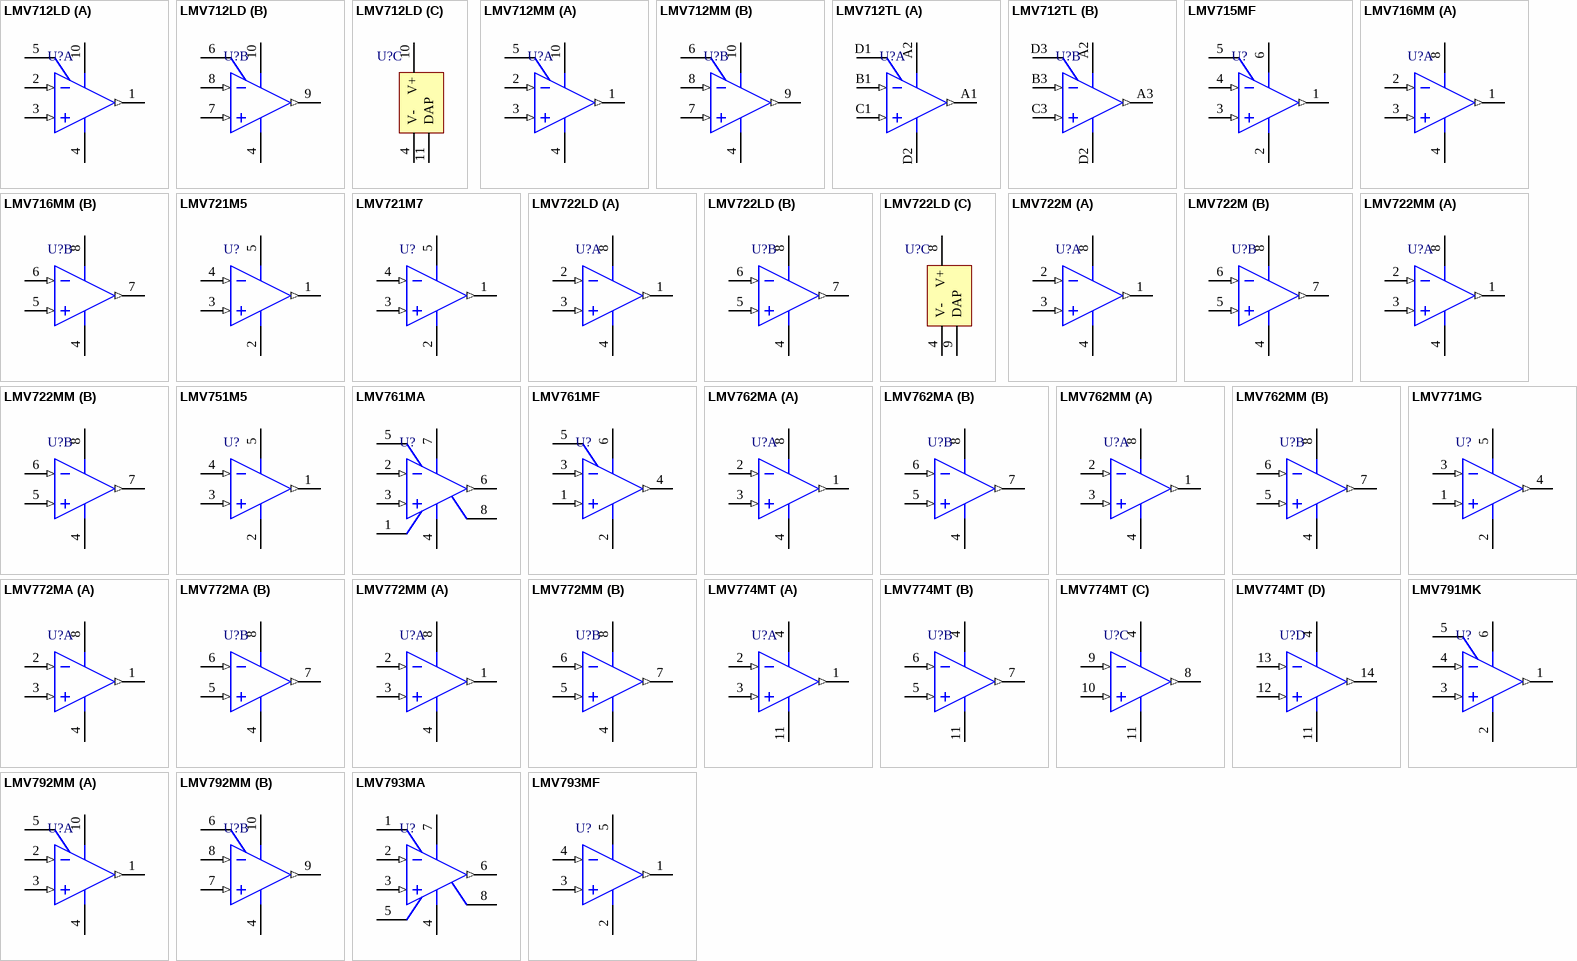
[diagram p34: symbols LMV712LD to LMV793MF]

## LMV712LD
designator U?
Low Power, Low Noise, High Output, RRIO Dual Operational Amplifier with Independent Shutdown; PartNumber: LMV712LD; Manufacturer: National Semiconductor; CompType: Amplifiers; PackageTopMarking: ZXYTT*A62; Published: 4-Dec-2008; LatestRevisionDate: 13-Jan-2009; LatestRevisionNote: Sim Model Added.; DatasheetVersion: Apr-2008; PackageVersion: revB, Jan-2003; PackageReference: LDA10A; Publisher: Altium Limited; PackageDescription: LLP, Plastic, Dual, 3 x 3 x 0.75mm Body, 10 Lead, 0.5mm Pitch; RoHS: Y; PinCount: 10; DigiKeyPartNumber: LMV712LDCT-ND; ComponentLink1Description: LMV712 Datasheet; ComponentLink1URL: http://www.national.com/ds/LM/LMV712.pdf; ComponentLink2Description: LMV712 Web Page; ComponentLink2URL: http://www.national.com/pf/LM/LMV712.html; ComponentLink3Description: LDA10A Package Page; ComponentLink3URL: http://www.national.com/packaging/folders/lda10a.html
footprint LDA10A (PSON, 10-Leads, Body 3x3mm, Pitch 0.5mm, NSC Recommended)
simulation model LMV711 (SUBCKT)
pins on every part: 4 V- (power), 10 V+ (power)
part A pins: 1 OUTA (out), 2 INA- (in), 3 INA+ (in), 5 SDA
part B pins: 6 SDB, 7 INB+ (in), 8 INB- (in), 9 OUTB (out)
part C pins: 11 DAP

## LMV712MM
designator U?
Low Power, Low Noise, High Output, RRIO Dual Operational Amplifier with Independent Shutdown; PartNumber: LMV712MM; Manufacturer: National Semiconductor; CompType: Amplifiers; PackageTopMarking: ZXTT*A61; Published: 4-Dec-2008; LatestRevisionDate: 13-Jan-2009; LatestRevisionNote: Sim Model Added.; DatasheetVersion: Apr-2008; PackageVersion: revB, Jul-2003; PackageReference: MUB10A; Publisher: Altium Limited; PackageDescription: Mini-SO, Molded, .118 x .118 x .034in Body, 10 Lead, .0197in Pitch; RoHS: O; PinCount: 10; DigiKeyPartNumber: LMV712MMCT-ND; Code_JEDEC: MO-187-BA; ComponentLink1Description: LMV712 Datasheet; ComponentLink1URL: http://www.national.com/ds/LM/LMV712.pdf; ComponentLink2Description: LMV712 Web Page; ComponentLink2URL: http://www.national.com/pf/LM/LMV712.html; ComponentLink3Description: MUB10A Package Page; ComponentLink3URL: http://www.national.com/packaging/folders/mub10a.html
footprint MUB10A_N (TSSOP, 10-Leads, Body 3x3mm, Pitch 0.5mm, IPC Medium Density)
footprint MUB10A_L (TSSOP, 10-Leads, Body 3x3mm, Pitch 0.5mm, IPC High Density)
footprint MUB10A_M (TSSOP, 10-Leads, Body 3x3mm, Pitch 0.5mm, IPC Low Density)
simulation model LMV711 (SUBCKT)
pins on every part: 4 V- (power), 10 V+ (power)
part A pins: 1 OUTA (out), 2 INA- (in), 3 INA+ (in), 5 SDA
part B pins: 6 SDB, 7 INB+ (in), 8 INB- (in), 9 OUTB (out)

## LMV712TL
designator U?
Low Power, Low Noise, High Output, RRIO Dual Operational Amplifier with Independent Shutdown; PartNumber: LMV712TL; Manufacturer: National Semiconductor; CompType: Amplifiers; PackageTopMarking: XYTT*I AU2A; Published: 4-Dec-2008; LatestRevisionDate: 13-Jan-2009; LatestRevisionNote: Sim Model Added.; DatasheetVersion: Apr-2008; PackageVersion: revD, Mar-2004; PackageReference: TLP10BBA; Publisher: Altium Limited; PackageDescription: Thin Micro SMD, 10 Bump (Large), 0.5mm Pitch; RoHS: Y; PinCount: 10; DigiKeyPartNumber: LMV712TLCT-ND; Code_JEDEC: MO-211-BD; ComponentLink1Description: LMV712 Datasheet; ComponentLink1URL: http://www.national.com/ds/LM/LMV712.pdf; ComponentLink2Description: LMV712 Web Page; ComponentLink2URL: http://www.national.com/pf/LM/LMV712.html; ComponentLink3Description: TLP10BBA Package Page; ComponentLink3URL: http://www.national.com/packaging/folders/tlp10bba.html
footprint TLP10BBA (Micro SMD, 10-Leads, Body 2.02x1.54mm, Pitch 0.5mm, NSC Recommended)
simulation model LMV711 (SUBCKT)
pins on every part: A2 V+ (power), D2 V- (power)
part A pins: A1 OUTA (out), B1 INA- (in), C1 INA+ (in), D1 SDA
part B pins: A3 OUTB (out), B3 INB- (in), C3 INB+ (in), D3 SDB

## LMV715MF
designator U?
Low Power, RRIO Operational Amplifiers with High Output Current Drive and Shutdown Option; PartNumber: LMV715MF; Manufacturer: National Semiconductor; PackageTopMarking: A75A*XTT; Published: 4-Dec-2008; DatasheetVersion: Jun-2005; PackageVersion: revC, Sep-2005; PackageReference: MF06A; Publisher: Altium Limited; PackageDescription: Molded SOT-23, .115 x .063 x .040in Body, 6 Lead, .0375in in Pitch; CompType: Amplifiers; RoHS: Y; PinCount: 6; DigiKeyPartNumber: LMV715MFCT-ND; Code_JEDEC: MO-178-AB; Code_IPC: SOT26A-6; ComponentLink1Description: LMV715 Datasheet; ComponentLink1URL: http://www.national.com/ds/LM/LMV715.pdf; ComponentLink2Description: LMV715 Web Page; ComponentLink2URL: http://www.national.com/pf/LM/LMV715.html; ComponentLink3Description: MF06A Package Page; ComponentLink3URL: http://www.national.com/packaging/folders/mf06a.html
footprint MF06A_N (SOT23, 6-Leads, Body 2.9x1.6mm, Pitch 0.95mm, Lead Span 2.8mm, IPC Medium Density)
footprint MF06A_L (SOT23, 6-Leads, Body 2.9x1.6mm, Pitch 0.95mm, Lead Span 2.8mm, IPC High Density)
footprint MF06A_M (SOT23, 6-Leads, Body 2.9x1.6mm, Pitch 0.95mm, Lead Span 2.8mm, IPC Low Density)
pins: 1 OUT (out), 2 V- (power), 3 IN+ (in), 4 IN- (in), 5 SHDN, 6 V+ (power)

## LMV716MM
designator U?
5 MHz, Low Noise Dual Operational Amplifiers, with CMOS Input; PartNumber: LMV716MM; Manufacturer: National Semiconductor; PackageTopMarking: ZXTT*AR3A; Published: 4-Dec-2008; LatestRevisionDate: 13-Jan-2009; LatestRevisionNote: Sim Model Added.; DatasheetVersion: Sep-2006; PackageVersion: revF, Apr-2008; PackageReference: MUA08A; Publisher: Altium Limited; PackageDescription: MINI SOIC, .118 x .118 x .034in, 8 Lead, .0256in Pitch; CompType: Amplifiers; RoHS: Y; PinCount: 8; DigiKeyPartNumber: LMV716MMCT-ND; Code_JEDEC: MO-187-AA; ComponentLink1Description: LMV716 Datasheet; ComponentLink1URL: http://www.national.com/ds/LM/LMV716.pdf; ComponentLink2Description: LMV716 Web Page; ComponentLink2URL: http://www.national.com/pf/LM/LMV716.html; ComponentLink3Description: MUA08A Package Page; ComponentLink3URL: http://www.national.com/packaging/folders/mua08a.html
footprint MUA08A_N (TSOP, 8-Leads, Body 3x3mm, Pitch 0.65mm, IPC Medium Density)
footprint MUA08A_L (TSOP, 8-Leads, Body 3x3mm, Pitch 0.65mm, IPC High Density)
footprint MUA08A_M (TSOP, 8-Leads, Body 3x3mm, Pitch 0.65mm, IPC Low Density)
simulation model LMV716 (SUBCKT)
pins on every part: 4 V- (power), 8 V+ (power)
part A pins: 1 OUTA (out), 2 INA- (in), 3 INA+ (in)
part B pins: 5 INB+ (in), 6 INB- (in), 7 OUTB (out)

## LMV721M5
designator U?
10MHz, Low Noise, Low Voltage, and Low Power Operational Amplifier; PartNumber: LMV721M5; Manufacturer: National Semiconductor; CompType: Amplifiers; PackageTopMarking: A30A*XTT; Published: 4-Dec-2008; LatestRevisionDate: 13-Jan-2009; LatestRevisionNote: Sim Model Added.; DatasheetVersion: Jul-2008; PackageVersion: revD, Aug-2008; PackageReference: MF05A; Publisher: Altium Limited; PackageDescription: Molded SOT-23, .115 x .063 x .040 in Body, 5 Lead, .0375 in Pitch; RoHS: O; PinCount: 5; DigiKeyPartNumber: LMV721M5CT-ND; Code_IPC: SOT23-5; ComponentLink1Description: LMV721 Datasheet; ComponentLink1URL: http://www.national.com/ds/LM/LMV721.pdf; ComponentLink2Description: LMV721 Web Page; ComponentLink2URL: http://www.national.com/pf/LM/LMV721.html; ComponentLink3Description: MF05A Package Page; ComponentLink3URL: http://www.national.com/packaging/folders/mf05a.html
footprint MF05A_N (SOT23, 5-Leads, Body 2.9x1.6mm, Pitch 0.95mm, Lead Span 2.8mm, IPC Medium Density)
footprint MF05A_L (SOT23, 5-Leads, Body 2.9x1.6mm, Pitch 0.95mm, Lead Span 2.8mm, IPC High Density)
footprint MF05A_M (SOT23, 5-Leads, Body 2.9x1.6mm, Pitch 0.95mm, Lead Span 2.8mm, IPC Low Density)
simulation model LMV721 (SUBCKT)
pins: 1 OUT (out), 2 V- (power), 3 IN+ (in), 4 IN- (in), 5 V+ (power)

## LMV721M7
designator U?
10MHz, Low Noise, Low Voltage, and Low Power Operational Amplifier; PartNumber: LMV721M7; Manufacturer: National Semiconductor; CompType: Amplifiers; PackageTopMarking: A20*XTT; Published: 4-Dec-2008; LatestRevisionDate: 13-Jan-2009; LatestRevisionNote: Sim Model Added.; DatasheetVersion: Jul-2008; PackageVersion: revD, Jun-2007; PackageReference: MAA05A; Publisher: Altium Limited; PackageDescription: Molded SC-70, 2 x 1.25 x .9mm, 5 Lead, 0.65mm Pitch; RoHS: O; PinCount: 5; DigiKeyPartNumber: LMV721M7CT-ND; Code_JEITA: SC-88A; Code_JEDEC: MO-203-AA; Code_IPC: SOT353-5; ComponentLink1Description: LMV721 Datasheet; ComponentLink1URL: http://www.national.com/ds/LM/LMV721.pdf; ComponentLink2Description: LMV721 Web Page; ComponentLink2URL: http://www.national.com/pf/LM/LMV721.html; ComponentLink3Description: MAA05A Package Page; ComponentLink3URL: http://www.national.com/packaging/folders/maa05a.html
footprint MAA05A_N (SOT353, 5-Leads, Body 2x1.3mm, Pitch 0.65mm, Lead Span 2.1mm, IPC Medium Density)
footprint MAA05A_L (SOT353, 5-Leads, Body 2x1.3mm, Pitch 0.65mm, Lead Span 2.1mm, IPC High Density)
footprint MAA05A_M (SOT353, 5-Leads, Body 2x1.3mm, Pitch 0.65mm, Lead Span 2.1mm, IPC Low Density)
simulation model LMV721 (SUBCKT)
pins: 1 OUT (out), 2 V- (power), 3 IN+ (in), 4 IN- (in), 5 V+ (power)

## LMV722LD
designator U?
10MHz, Low Noise, Low Voltage, and Low Power Operational Amplifier; PartNumber: LMV722LD; Manufacturer: National Semiconductor; CompType: Amplifiers; PackageTopMarking: XYTT*L22; Published: 4-Dec-2008; DatasheetVersion: Jul-2008; PackageVersion: revB, Jun-2003; PackageReference: LDA08C; Publisher: Altium Limited; PackageDescription: LLP, Plastic, Dual, 2.5 x 3 x 0.75mm, 8 Lead, 0.5mm Pitch; RoHS: O; PinCount: 8; DigiKeyPartNumber: LMV722LDCT-ND; Code_JEDEC: MO-229-WDED; ComponentLink1Description: LMV722 Datasheet; ComponentLink1URL: http://www.national.com/ds/LM/LMV722.pdf; ComponentLink2Description: LMV722 Web Page; ComponentLink2URL: http://www.national.com/pf/LM/LMV722.html; ComponentLink3Description: LDA08C Package Page; ComponentLink3URL: http://www.national.com/packaging/folders/lda08c.html
footprint LDA08C (PSON, 8-Leads, Body 2.5x3mm, Pitch 0.5mm, NSC Recommended)
pins on every part: 4 V- (power), 8 V+ (power)
part A pins: 1 OUTA (out), 2 INA- (in), 3 INA+ (in)
part B pins: 5 INB+ (in), 6 INB- (in), 7 OUTB (out)
part C pins: 9 DAP

## LMV722M
designator U?
10MHz, Low Noise, Low Voltage, and Low Power Operational Amplifier; PartNumber: LMV722M; Manufacturer: National Semiconductor; CompType: Amplifiers; PackageTopMarking: NSZXTT*LMV*722M; Published: 4-Dec-2008; LatestRevisionDate: 13-Jan-2009; LatestRevisionNote: Sim Model Added.; DatasheetVersion: Jul-2008; PackageVersion: revL, Sep-2006; PackageReference: M08A; Publisher: Altium Limited; PackageDescription: SOIC Narrow, 4.9 x 3.9 x 1.45mm, 8 Lead, 1.27mm Pitch; RoHS: O; PinCount: 8; DigiKeyPartNumber: LMV722MMCT-ND; Code_JEDEC: MS-012-AA; Code_IPC: SOIC127P600-8; ComponentLink1Description: LMV722 Datasheet; ComponentLink1URL: http://www.national.com/ds/LM/LMV722.pdf; ComponentLink2Description: LMV722 Web Page; ComponentLink2URL: http://www.national.com/pf/LM/LMV722.html; ComponentLink3Description: M08A Package Page; ComponentLink3URL: http://www.national.com/packaging/folders/m08a.html
footprint M08A_N (SOIC, 8-Leads, Body 4.9x3.9mm, Pitch 1.27mm, IPC Medium Density)
footprint M08A_L (SOIC, 8-Leads, Body 4.9x3.9mm, Pitch 1.27mm, IPC High Density)
footprint M08A_M (SOIC, 8-Leads, Body 4.9x3.9mm, Pitch 1.27mm, IPC Low Density)
simulation model LMV721 (SUBCKT)
pins on every part: 4 V- (power), 8 V+ (power)
part A pins: 1 OUTA (out), 2 INA- (in), 3 INA+ (in)
part B pins: 5 INB+ (in), 6 INB- (in), 7 OUTB (out)

## LMV722MM
designator U?
10MHz, Low Noise, Low Voltage, and Low Power Operational Amplifier; PartNumber: LMV722MM; Manufacturer: National Semiconductor; CompType: Amplifiers; PackageTopMarking: ZXTT*V722; Published: 4-Dec-2008; LatestRevisionDate: 13-Jan-2009; LatestRevisionNote: Sim Model Added.; DatasheetVersion: Jul-2008; PackageVersion: revF, Apr-2008; PackageReference: MUA08A; Publisher: Altium Limited; PackageDescription: MINI SOIC, .118 x .118 x .034in, 8 Lead, .0256in Pitch; RoHS: Y; PinCount: 8; DigiKeyPartNumber: LMV722MMCT-ND; Code_JEDEC: MO-187-AA; ComponentLink1Description: LMV722 Datasheet; ComponentLink1URL: http://www.national.com/ds/LM/LMV722.pdf; ComponentLink2Description: LMV722 Web Page; ComponentLink2URL: http://www.national.com/pf/LM/LMV722.html; ComponentLink3Description: MUA08A Package Page; ComponentLink3URL: http://www.national.com/packaging/folders/mua08a.html
footprint MUA08A_N (TSOP, 8-Leads, Body 3x3mm, Pitch 0.65mm, IPC Medium Density)
footprint MUA08A_L (TSOP, 8-Leads, Body 3x3mm, Pitch 0.65mm, IPC High Density)
footprint MUA08A_M (TSOP, 8-Leads, Body 3x3mm, Pitch 0.65mm, IPC Low Density)
simulation model LMV721 (SUBCKT)
pins on every part: 4 V- (power), 8 V+ (power)
part A pins: 1 OUTA (out), 2 INA- (in), 3 INA+ (in)
part B pins: 5 INB+ (in), 6 INB- (in), 7 OUTB (out)